# EAGLE library part 4608X-102-104LF (library 154N_NAU7802_TH)
Bourns Isolated Resistor Array 100k +/-2% 4 Resistors, 1W Total, SIP Package 4600X Through Hole Source: Datasheet <http://uk.rs-online.com/web/p/products/5223826P>
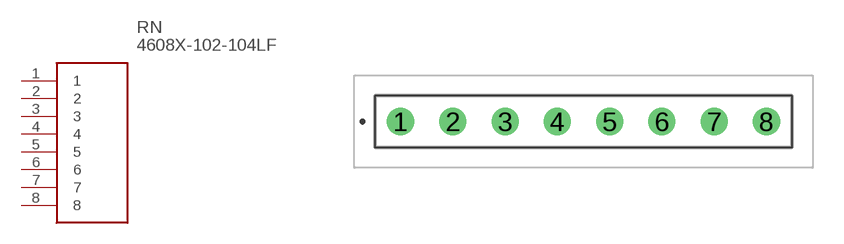
[diagram p1: symbol with the pads of 4608X102104LF; footprint 4608X102104LF]

Designator prefix RN

## 4608X-102-104LF (DESCRIPTION: Bourns Isolated Resistor Array 100k +/-2% 4 Resistors, 1W Total, SIP Package 4600X Through Hole; HEIGHT: 5.08mm; MANUFACTURER_NAME: Bourns; MANUFACTURER_PART_NUMBER: 4608X-102-104LF; RS_PART_NUMBER: 5223826P; RS_PRICE-STOCK: http://uk.rs-online.com/web/p/products/5223826P)  [4608X102104LF]
1  1
2  2
3  3
4  4
5  5
6  6
7  7
8  8

## Footprint 4608X102104LF (pad centres in mm)
4608X-102-104LF-2
drill 0.77 pad 1.32: 1 0,0; 2 2.54,0; 3 5.08,0; 4 7.62,0; 5 10.16,0; 6 12.7,0; 7 15.24,0; 8 17.78,0